# Altium footprint library Diodes.PcbLib: 16 footprints
Each footprint in its own frame and in the unit in brackets; x right, y up, seen from the top. Pads: shape width x height; smd on the part's side, far side on the other; paste and mask are expansions set on the pad; w line width, h text height; cw(c..) or ccw(c..) is an arc to the next point about the centre after c.
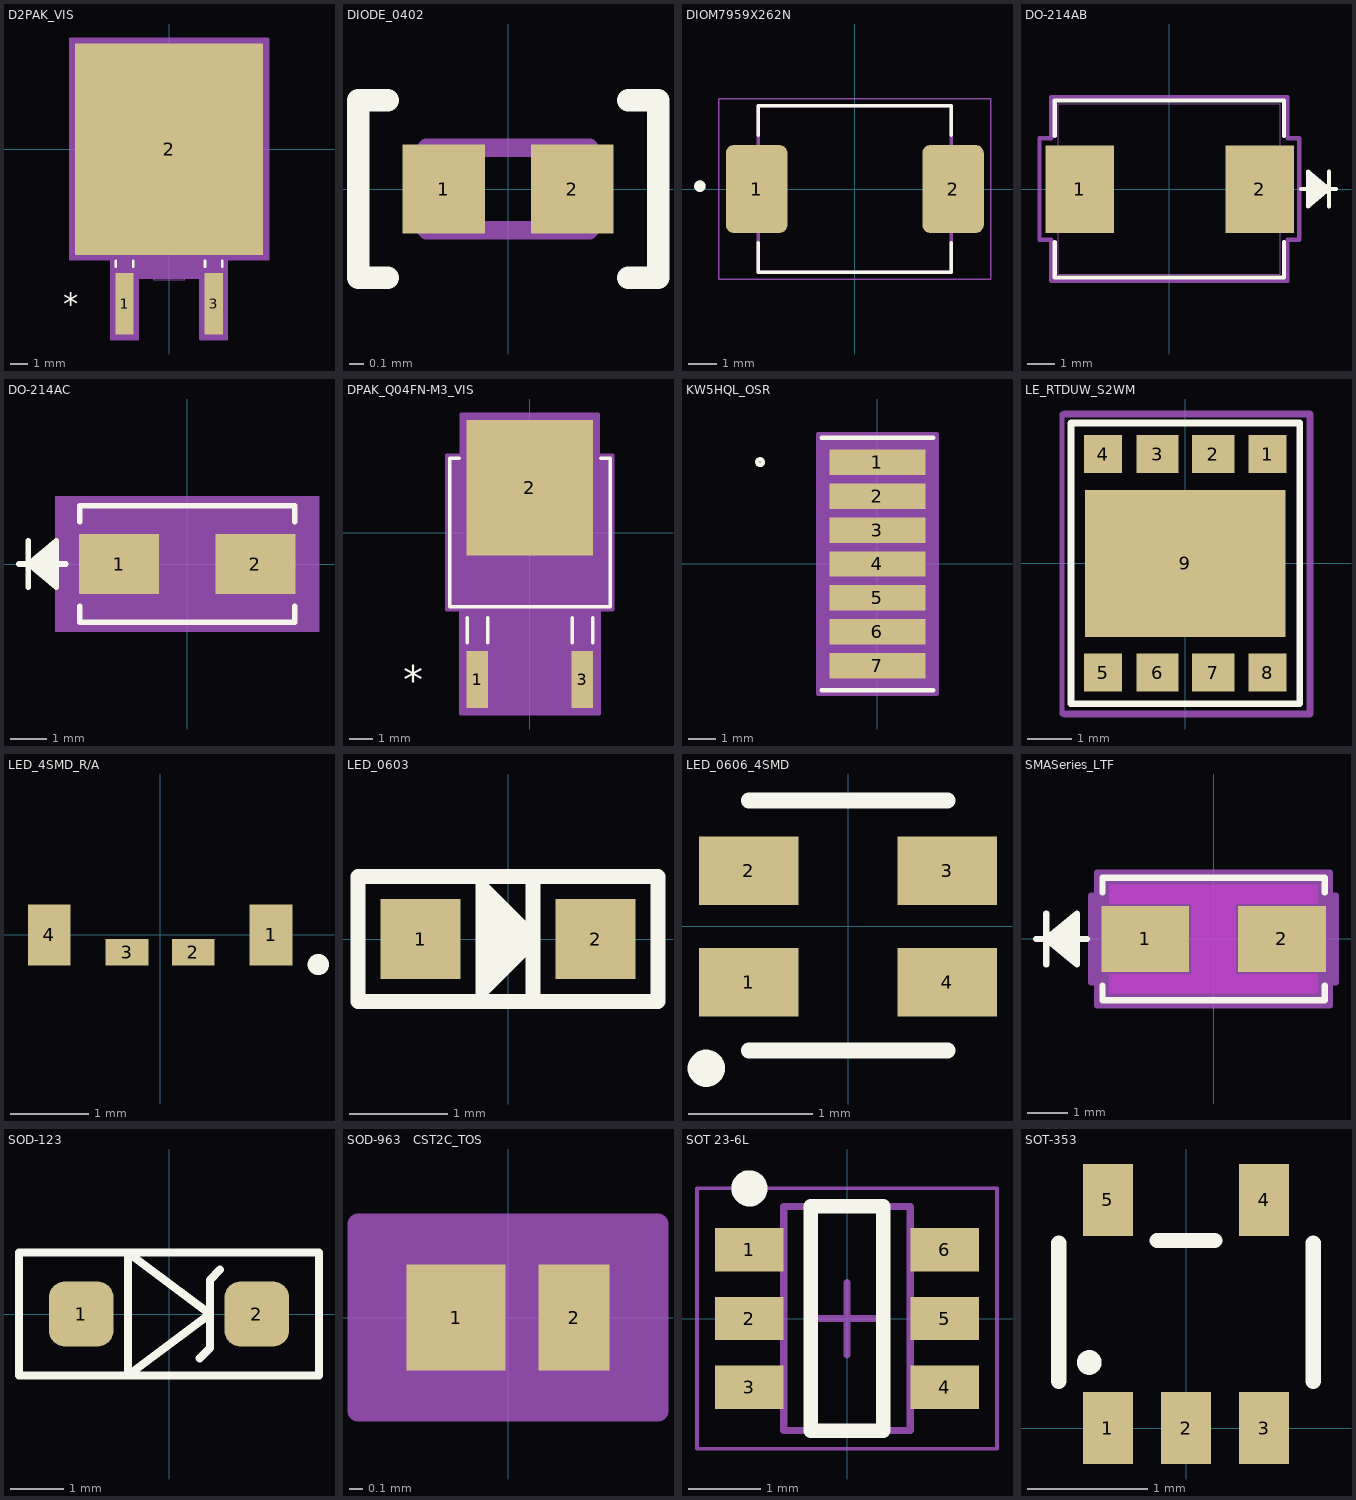
[diagram p0: the footprints below, top view; thin cyan lines are the x and y axes]

## D2PAK_VIS [mil]
pads (3):
  rect 41x138 smd paste+0 mask+0: 1(-100,-347) 3(100,-347)
  rect 422x474 smd paste+0 mask+0: 2(0,0)
Top Overlay:
  lines w6: -119.5,-264 -119.5,-250.1 ; -80.5,-264 -80.5,-250.1 ; 80.5,-264 80.5,-250.1 ; 119.5,-264 119.5,-250.1
  text "*" at -237.5,-372 h50
Mechanical 13:
  lines w1: -35,-223 -35,-293 35,-293 35,-223 ; -210,-223 -210,223 210,223 210,-223 -210,-223 ; -119.5,-402 -80.5,-402 -80.5,-223 -119.5,-223 -119.5,-402 ; 80.5,-402 119.5,-402 119.5,-223 80.5,-223 80.5,-402
  text "*" at -112.5,-238 h50
Mechanical 15:
  region: -129.5,-247 -222,-247 -222,247 222,247 222,-247 129.5,-247 129.5,-426 70.5,-426 70.5,-288 -70.5,-288 -70.5,-426 -129.5,-426
  lines w6: -222,-247 -129.5,-247 -129.5,-426 -70.5,-426 -70.5,-288 70.5,-288 70.5,-426 129.5,-426 129.5,-247 222,-247 222,247 -222,247 -222,-247
3D body "D2PAK_VIS.step": height 190.12, standoff -2.01, extent -210,-402.01 210,223.11

## DIODE_0402 [mm]
pads (2):
  rect 0.56x0.6 smd: 1(-0.435,0) 2(0.435,0)
Top Overlay:
  lines w0.152: -0.816,-0.6 -1.016,-0.6 -1.016,0.6 -0.815,0.6 ; 0.815,-0.6 1.016,-0.6 1.016,0.6 0.816,0.6
Mechanical 13:
  lines w0.127: -0.55,-0.28 0.55,-0.28 0.55,0.28 -0.55,0.28 -0.55,-0.28
3D body "GRT155R70J105KE01D.STEP": height 0.51, standoff 0.01, extent -0.5,-0.275 0.5,0.275

## DIOM7959X262N [mm]
pads (2):
  rrect25% 2.18x3.12 smd: 1(-3.485,0) 2(3.485,0)
Top Overlay:
  circle w0.2: c-5.5,0.1 r0.1
  lines w0.127: -3.427,-1.9 -3.427,-2.953 3.427,-2.953 3.427,-1.9 ; -3.427,1.9 -3.427,2.953 3.427,2.953 3.427,1.9
Mechanical 13:
  circle w0.2: c-5.5,0.1 r0.1
  lines w0.127: -3.427,-2.953 3.427,-2.953 3.427,2.953 -3.427,2.953 -3.427,-2.953
Mechanical 15:
  lines w0.05: -4.825,-3.203 4.825,-3.203 4.825,3.203 -4.825,3.203 -4.825,-3.203
3D body "DO-214AB.STEP": height 2.94, standoff 0.01, extent -4.033,-3.131 4.017,3.119

## DO-214AB [mil]
pads (2):
  rect 98.43x126 smd paste+0 mask+0: 1(-129,0) 2(130,0)
Top Overlay:
  lines w6: -165,-76.1 -165,-127.5 165,-127.5 165,-76.1 ; -165,76.1 -165,127.5 165,127.5 165,76.1 ; 190,0 240,0 ; 200,-20 230,0 ; 200,-15 230,0 ; 200,-10 230,0 ; 200,-5 230,0 ; 200,5 230,0 ; 200,10 230,0 ; 200,15 230,0 ; 200,20 230,0 ; 230,-25 230,25 ; 230,0 200,25 200,-25 230,0
Mechanical 13:
  lines w1: 190,0 240,0 ; 200,-20 230,0 ; 200,-15 230,0 ; 200,-10 230,0 ; 200,-5 230,0 ; 200,5 230,0 ; 200,10 230,0 ; 200,15 230,0 ; 200,20 230,0 ; 230,-25 230,25 ; 230,0 200,25 200,-25 230,0 ; -160,-122.5 160,-122.5 160,122.5 -160,122.5 -160,-122.5
Mechanical 15:
  lines w6: -187,-73 -187,-25.5 -187,47.5 -187,73 -170,73 -170,132.5 170,132.5 170,73 187,73 187,-73 170,-73 170,-132.5 -170,-132.5 -170,-73 -187,-73
3D body "SMDJSeries_LTF.step": height 105, standoff 0, extent -160,-122.52 160,122.52

## DO-214AC [mil]
pads (2):
  rect 86x64 smd paste+0 mask+0: 1(-73,0) 2(73,0)
Top Overlay:
  lines w6: -180,0 -130,0 ; -170,-25 -170,25 ; -140,-20 -170,0 ; -140,-15 -170,0 ; -140,-10 -170,0 ; -140,-5 -170,0 ; -140,5 -170,0 ; -140,10 -170,0 ; -140,15 -170,0 ; -140,20 -170,0 ; -115,-45.1 -115,-62.5 115,-62.5 115,-45.1 ; -115,45.1 -115,62.5 115,62.5 115,45.1 ; -170,0 -140,-25 -140,25 -170,0
Mechanical 5:
  region: 141,-72.5 -141,-72.5 -141,72.5 141,72.5
Mechanical 13:
  lines w1: -180,0 -130,0 ; -170,-25 -170,25 ; -140,-20 -170,0 ; -140,-15 -170,0 ; -140,-10 -170,0 ; -140,-5 -170,0 ; -140,5 -170,0 ; -140,10 -170,0 ; -140,15 -170,0 ; -140,20 -170,0 ; -170,0 -140,-25 -140,25 -170,0 ; -110,-57.5 -110,57.5 110,57.5 110,-57.5 -110,-57.5
Mechanical 15:
  region: -120,-42 -126,-42 -126,42 -120,42 -120,67.5 120,67.5 120,42 126,42 126,-42 120,-42 120,-67.5 -120,-67.5
  lines w6: -126,-42 -120,-42 -120,-67.5 120,-67.5 120,-42 126,-42 126,42 120,42 120,67.5 -120,67.5 -120,42 -126,42 -126,-42
3D body "ZDO_DO-214AC_SMA_LF_MCE.step": height 97.99, standoff 0, extent -110,-57.48 110,57.48

## DPAK_Q04FN-M3_VIS [mil]
pads (3):
  rect 37x98 smd paste+0 mask+0: 1(-90.16,-252.5) 3(90.16,-252.5)
  rect 217x233 smd paste+0 mask+0: 2(0,77)
Top Overlay:
  lines w6: -121.6,127.5 -137.5,127.5 -137.5,-127.5 137.5,-127.5 137.5,127.5 121.6,127.5 ; -107.66,-189.5 -107.66,-146.5 ; -72.66,-189.5 -72.66,-146.5 ; 72.66,-189.5 72.66,-146.5 ; 107.66,-189.5 107.66,-146.5
  text "*" at -217.81,-277.5 h50
Mechanical 13:
  lines w1: -132.5,-122.5 132.5,-122.5 132.5,122.5 -132.5,122.5 -132.5,-122.5 ; -107.66,-287.5 -107.66,-122.5 -72.66,-122.5 -72.66,-287.5 -107.66,-287.5 ; 72.66,-287.5 72.66,-122.5 107.66,-122.5 107.66,-287.5 72.66,-287.5
  text "*" at -102.66,-137.5 h50
Mechanical 15:
  region: -142.5,-132.5 -142.5,132.5 -117.5,132.5 -117.5,203.5 117.5,203.5 117.5,132.5 142.5,132.5 142.5,-132.5 118.66,-132.5 118.66,-311.5 -118.66,-311.5 -118.66,-132.5
  lines w6: -142.5,-132.5 -142.5,132.5 -117.5,132.5 -117.5,203.5 117.5,203.5 117.5,132.5 142.5,132.5 142.5,-132.5 118.66,-132.5 118.66,-311.5 -118.66,-311.5 -118.66,-132.5 -142.5,-132.5
3D body "DPAK_Q04FN-M3_VIS.step": height 94.09, standoff -2.01, extent -132.52,-287.52 132.52,172.52

## KW5HQL_OSR [mil]
pads (7):
  rect 136x36 smd paste+0 mask+0: 1(0,144.09) 2(0,96.06) 3(0,48.03) 4(0,0) 5(0,-48.03) 6(0,-96.06) 7(0,-144.09)
Top Overlay:
  circle w6: c-166.06,144.09 r4
  lines w6: -79,-178.5 79,-178.5 ; -79,178.5 79,178.5
Mechanical 13:
  circle w0: c68,144.09 r3
  lines w0: -12,173.5 ccw(c0,173.5) 12,173.5
  lines w1: -74,-173.5 -74,173.5 74,173.5 74,-173.5 -74,-173.5
Mechanical 15:
  region: -84,-148.08 -84,148.08 -84,183.5 84,183.5 84,148.08 84,-148.08 84,-183.5 -84,-183.5
  lines w6: -84,-183.5 84,-183.5 84,-148.08 84,148.08 84,183.5 -84,183.5 -84,148.08 -84,-148.08 -84,-183.5

## LE_RTDUW_S2WM [mil]
pads (9):
  rect 33.5x33.5 smd: 1(72.6,96.5) 4(-72.6,96.5) 5(-72.6,-96.5) 8(72.6,-96.5)
  rect 37.4x33.5 smd: 2(24.6,96.5) 3(-24.6,96.5) 6(-24.6,-96.5) 7(24.6,-96.5)
  rect 177.17x129.92 smd: 9(0,0)
Top Overlay:
  lines w6: -101,-124.02 101,-124.02 101,124.02 -101,124.02 -101,-124.02
Boundary:
  lines w4.72: -109,-133 -109,131.84
  lines w6: -106.76,-133 110.04,-133 110.04,131.86 -106.76,131.86
3D body "LERTDUWS2WM-JBLA-1+LBMA-P+4V5A-P+MBNA-CQ.stp": height 51.97, standoff 0, extent -92,-113.38 92.25,113

## LED_4SMD_R/A [mm]
pads (4):
  rrect0% 0.55x0.78 smd: 1(1.425,0) 4(-1.425,0)
  rrect0% 0.55x0.34 smd: 2(0.425,-0.22) 3(-0.425,-0.22)
Top Overlay:
  circle w0.254: c2.032,-0.381 r0.009
3D body "EASV3015RGBA0.STEP": height 1.01, standoff 0.01, extent -1.5,-0.22 1.5,1.28

## LED_0603 [mil] "LED 0603"
pads (2):
  rect 32x32 smd: 1(-35,0) 2(35,0)
Top Overlay:
  region: -10,-20 10,0 -10,20
  lines w4: -11,-25 -11,-20 ; -11,20 -11,25
  lines w6: 10,-25 10,25 ; -60,-25 60,-25 60,25 -60,25 -60,-25 ; -10,-20 10,0 -10,20 -10,-20
3D body "150060AS75000_STP_150060xS75000_rev1.stp": height 27.56, standoff 0, extent -31.49,-15.74 31.51,15.75

## LED_0606_4SMD [mm]
pads (4):
  rrect0% 0.8x0.55 smd: 1(-0.8,-0.45) 2(-0.8,0.45) 3(0.8,0.45) 4(0.8,-0.45)
Top Overlay:
  circle w0.15: c-1.143,-1.143 r0.075
  lines w0.127: -0.8,-1 0.8,-1 ; -0.8,1.016 0.8,1.016
3D body "EAST1616RGBB4--3DModel-STEP-56544.STEP": height 0.35, standoff 0, extent -0.8,-0.8 0.8,0.8

## SMASeries_LTF [mil]
pads (2):
  rect 86x65 smd paste+0 mask+0: 1(-67,0) 2(67,0)
Top Layer keep-out:
  region: -102,-53 -102,-34.5 102,-34.5 102,-53
  region: -102,34.5 -102,53 102,53 102,34.5
  region: -22,-34.5 -22,34.5 22,34.5 22,-34.5
Top Overlay:
  lines w6: -174,0 -124,0 ; -164,-25 -164,25 ; -134,-20 -164,0 ; -134,-15 -164,0 ; -134,-10 -164,0 ; -134,-5 -164,0 ; -134,5 -164,0 ; -134,10 -164,0 ; -134,15 -164,0 ; -134,20 -164,0 ; -109,-45.6 -109,-60 109,-60 109,-45.6 ; -109,45.6 -109,60 109,60 109,45.6 ; -164,0 -134,-25 -134,25 -164,0
Keep-Out Layer:
  region: -22,-34.5 -22,34.5 22,34.5 22,-34.5
Mechanical 13:
  lines w1: -174,0 -124,0 ; -164,-25 -164,25 ; -134,-20 -164,0 ; -134,-15 -164,0 ; -134,-10 -164,0 ; -134,-5 -164,0 ; -134,5 -164,0 ; -134,10 -164,0 ; -134,15 -164,0 ; -134,20 -164,0 ; -164,0 -134,-25 -134,25 -164,0 ; -104,-55 -104,55 104,55 104,-55 -104,-55
Mechanical 15:
  region: -114,-42.5 -120,-42.5 -120,42.5 -114,42.5 -114,65 114,65 114,42.5 120,42.5 120,-42.5 114,-42.5 114,-65 -114,-65
  lines w6: -120,-42.5 -114,-42.5 -114,-65 114,-65 114,-42.5 120,-42.5 120,42.5 114,42.5 114,65 -114,65 -114,42.5 -120,42.5 -120,-42.5
3D body "SMASeries_LTF.step": height 92.01, standoff 0, extent -104.02,-55 104.02,55

## SOD-123 [mm] "Schottky Diode SOD-123"
pads (2):
  rrect50% 1.2x1.22 smd: 1(-1.635,0) 2(1.635,0)
Top Overlay:
  lines w0.152: 0.572,-0.826 0.762,-0.635 0.762,0.635 0.953,0.826 ; -2.794,-1.143 2.794,-1.143 2.794,1.143 -2.794,1.143 -2.794,-1.143 ; -0.762,-1.143 0.762,0 -0.762,1.143 -0.762,-1.143
3D body "User Library-SOD123-1.step": height 1.18, standoff 0, extent -1.95,-0.9 1.95,0.9

## SOD-963   CST2C_TOS [mil]
pads (2):
  rect 28x30 smd paste-14 mask+0: 1(-14.7,0)
  rect 20x30 smd paste-10 mask+0: 2(18.7,0)
Mechanical 13:
  lines w0: -12,16.5 ccw(c0,16.5) 12,16.5
  lines w1: -32.5,-16.5 -32.5,16.5 32.5,16.5 32.5,-16.5 -32.5,-16.5
Mechanical 15:
  region: -42.5,-25 -42.5,25 -42.5,26.5 42.5,26.5 42.5,25 42.5,-25 42.5,-26.5 -42.5,-26.5
  lines w6: -42.5,-26.5 42.5,-26.5 42.5,-25 42.5,25 42.5,26.5 -42.5,26.5 -42.5,25 -42.5,-25 -42.5,-26.5
3D body "SOD-963CST2C_TOS.step": height 20.12, standoff 0, extent -32.52,-16.5 32.52,16.5

## SOT 23-6L [mm] "SOT23, 6-Leads, Body 2.95x2.80mm, Pitch 0.95mm, IPC Medium Density"
height 1.45
pads (6):
  rect 0.95x0.6 smd: 1(-1.35,0.95) 2(-1.35,0) 3(-1.35,-0.95) 4(1.35,-0.95) 5(1.35,0) 6(1.35,0.95)
Top Overlay:
  circle w0.25: c-1.35,1.8 r0.125
  lines w0.2: -0.5,-1.55 -0.5,1.55 0.5,1.55 0.5,-1.55 -0.5,-1.55
Mechanical 13:
  lines w0.1: -0.875,-1.55 0.875,-1.55 0.875,1.55 -0.875,1.55 -0.875,-1.55
Mechanical 15:
  lines w0.05: -2.075,-1.8 2.075,-1.8 2.075,1.8 -2.075,1.8 -2.075,-1.8
  lines w0.1: -0.5,0 0.5,0 ; 0,-0.5 0,0.5
3D body "SOT95P280X145-6N.step": height 1.45, standoff 0, extent -1.4,-1.55 1.4,1.55

## SOT-353 [mm]
pads (5):
  rect 0.42x0.6 smd: 1(-0.65,0) 2(0,0) 3(0.65,0) 4(0.65,1.9) 5(-0.65,1.9)
Top Overlay:
  circle w0.127: c-0.806,0.546 r0.039
  lines w0.127: -1.06,0.39 -1.06,1.541 ; -0.242,1.563 0.241,1.563 ; 1.06,0.39 1.06,1.541
3D body "SOT-353.stp": height 0.96, standoff -0.04, extent -0.992,-0.144 1.008,2.056